# EAGLE library part ADG608_SMD (library PocketCube)
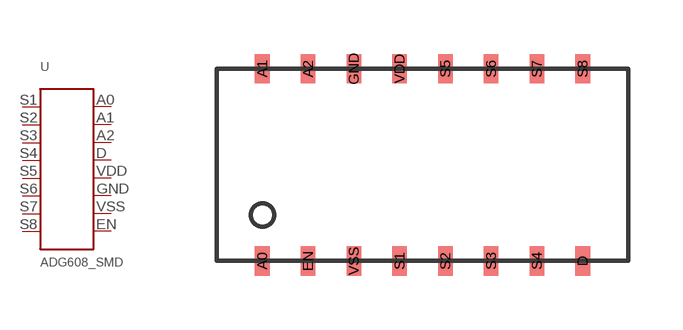
[diagram p15: symbol with the pads of ADG608_SMD; footprint ADG608_SMD]

Designator prefix -

## ADG608_SMD  [ADG608_SMD]
A0  A0
A1  A1
A2  A2
D  D
EN  EN
GND  GND
S1  S1
S2  S2
S3  S3
S4  S4
S5  S5
S6  S6
S7  S7
S8  S8
VDD  VDD
VSS  VSS

## Footprint ADG608_SMD (pad centres in mm)
smd 0.406 x 0.813: A0 0,0; A1 0,5.334; A2 1.27,5.334; D 8.89,0; EN 1.27,0; GND 2.54,5.334; S1 3.81,0; S2 5.08,0; S3 6.35,0; S4 7.62,0; S5 5.08,5.334; S6 6.35,5.334; S7 7.62,5.334; S8 8.89,5.334; VDD 3.81,5.334; VSS 2.54,0